# EAGLE library part RS0108YQ20 (library RS0108YQ20)
Voltage Level Translator Bidirectional 1 Circuit 8 Channel 24Mbps 20-TSSOP Source: Datasheet <https://4donline.ihs.com/images/VipMasterIC/IC/JRUN/JRUN-S-A0018370951/JRUN-S-A0018371105-1.pdf?hkey=EF798316E3902B6ED9A73243A3159BB0>
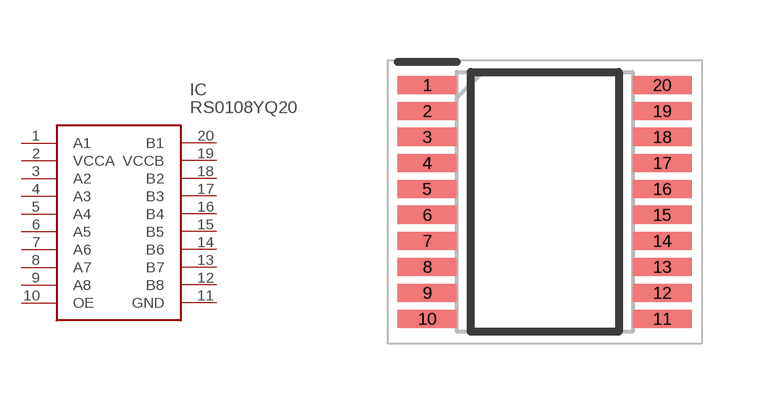
[diagram p0: symbol with the pads of SOP65P640X120-20N; footprint SOP65P640X120-20N]

Designator prefix IC

## RS0108YQ20 (Description: Voltage Level Translator Bidirectional 1 Circuit 8 Channel 24Mbps 20-TSSOP; Height: 1.2mm; Manufacturer_Name: RUNIC; Manufacturer_Part_Number: RS0108YQ20)  [SOP65P640X120-20N]
1  A1
2  VCCA
3  A2
4  A3
5  A4
6  A5
7  A6
8  A7
9  A8
10  OE
11  GND
12  B8
13  B7
14  B6
15  B5
16  B4
17  B3
18  B2
19  VCCB
20  B1

## Footprint SOP65P640X120-20N (pad centres in mm)
TSSOP20_2024
smd 1.475 x 0.45: 1 -2.938,2.925; 2 -2.938,2.275; 3 -2.938,1.625; 4 -2.938,0.975; 5 -2.938,0.325; 6 -2.938,-0.325; 7 -2.938,-0.975; 8 -2.938,-1.625; 9 -2.938,-2.275; 10 -2.938,-2.925; 11 2.938,-2.925; 12 2.938,-2.275; 13 2.938,-1.625; 14 2.938,-0.975; 15 2.938,-0.325; 16 2.938,0.325; 17 2.938,0.975; 18 2.938,1.625; 19 2.938,2.275; 20 2.938,2.925